# Altium footprint library MicroXNJ.PcbLib: 1 footprints
Each footprint in its own frame and in the unit in brackets; x right, y up, seen from the top. Pads: shape width x height; smd on the part's side, far side on the other; paste and mask are expansions set on the pad; w line width, h text height; cw(c..) or ccw(c..) is an arc to the next point about the centre after c.
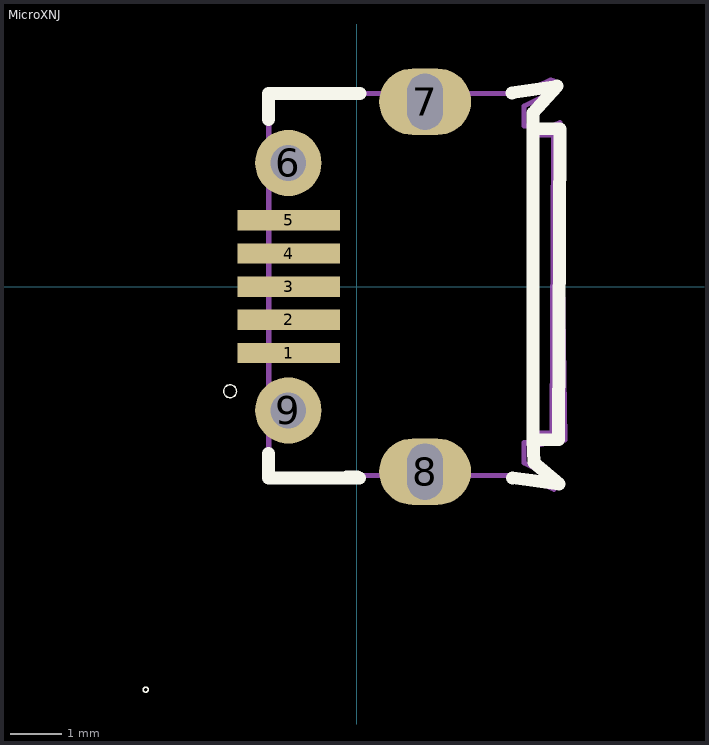
[diagram p0: the footprint, top view; thin cyan lines are the x and y axes]

## MicroXNJ [mm] "USB Connectors. -20C~+85C 1 1.8A 30V 5,000 times 5P Black Female Micro-B Surface Mount, Right Angle USB 2.0 SMD USB Connectors ROHS"
pads (9):
  rect 2x0.4 smd: 1(-1.332,-1.3) 2(-1.332,-0.65) 3(-1.332,0) 4(-1.332,0.65) 5(-1.332,1.3)
  round 1.3 hole 0.7: 6(-1.34,2.425) 9(-1.34,-2.425)
  oval 1.8x1.3 hole 0.7 slot 1.1 at 90 deg: 7(1.34,3.625) 8(1.34,-3.625)
Top Overlay:
  circle w0.025: c-4.136,-7.897 r0.05
  circle w0.025: c-2.483,-2.049 r0.127
  lines w0.254: -1.725,-3.274 -1.725,-3.745 0.058,-3.745 ; -1.725,3.274 -1.725,3.79 0.066,3.79 ; -0.196,-3.731 0.012,-3.735 ; -0.163,-3.732 0.012,-3.733 ; 3.041,3.8 3.926,3.93 3.451,3.4 3.451,3.1 ; 3.052,-3.745 3.967,-3.87 3.471,-3.45 3.451,-3 ; 3.451,-3 3.951,-3 3.981,3.09 3.451,3.1 ; 3.451,-3 3.451,3.1
Top Paste:
  region: -1.957,0.175 -1.957,-0.175 -0.707,-0.175 -0.707,0.175
  region: -1.957,0.825 -1.957,0.475 -0.707,0.475 -0.707,0.825
  region: -1.957,1.475 -1.957,1.125 -0.707,1.125 -0.707,1.475
  region: -1.957,-0.475 -1.957,-0.825 -0.707,-0.825 -0.707,-0.475
  region: -1.957,-1.125 -1.957,-1.475 -0.707,-1.475 -0.707,-1.125
Mechanical 13:
  lines w0.1: -1.725,-3.7 -1.725,3.79 3.255,3.79 3.805,4.05 3.865,4.03 3.865,3.83 3.275,3.54 3.275,3.15 3.875,3.15 3.865,-3.03 3.865,-3.05 3.275,-3.05 3.275,-3.45 3.875,-3.74 3.865,-3.97 3.265,-3.7 -1.715,-3.7 -1.725,-3.7 ; 3.449,2.973 3.854,2.965 3.825,-2.873 3.451,-2.873 3.451,-3.127 4.078,-3.001 3.984,3.217 3.449,2.973
3D body "a2b1a9114fe84000a47b1a073321bc87.step": height 0, standoff 0, extent -2.112,-4.015 3.852,3.985